# Altium footprint library SP12T.PCBLIB: 1 footprints
Each footprint in its own frame and in the unit in brackets; x right, y up, seen from the top. Pads: shape width x height; smd on the part's side, far side on the other; paste and mask are expansions set on the pad; w line width, h text height; cw(c..) or ccw(c..) is an arc to the next point about the centre after c.
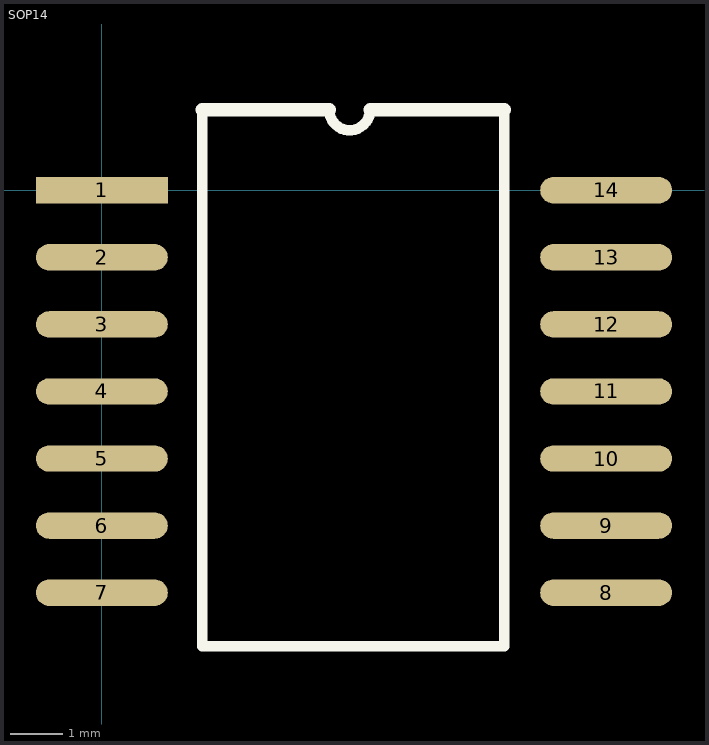
[diagram p0: the footprint, top view; thin cyan lines are the x and y axes]

## SOP14 [mm] "SP12T Footprint"
height 5
pads (14):
  rect 2.5x0.5 smd: 1(0,0)
  oval 2.5x0.5 smd: 2(0,-1.27) 3(0,-2.54) 4(0,-3.81) 5(0,-5.08) 6(0,-6.35) 7(0,-7.62) 8(9.55,-7.62) 9(9.55,-6.35) 10(9.55,-5.08) 11(9.55,-3.81) 12(9.55,-2.54) 13(9.55,-1.27) 14(9.55,0)
Top Overlay:
  lines w0.2: 1.9,1.524 1.9,-8.636 7.62,-8.636 7.62,1.524 ; 4.305,1.524 ccw(c4.692,1.524) 5.08,1.524
  lines w0.254: 1.9,1.524 4.305,1.524 ; 5.08,1.524 7.62,1.524